# Altium footprint library SOD-323P.PcbLib: 1 footprints
Each footprint in its own frame and in the unit in brackets; x right, y up, seen from the top. Pads: shape width x height; smd on the part's side, far side on the other; paste and mask are expansions set on the pad; w line width, h text height; cw(c..) or ccw(c..) is an arc to the next point about the centre after c.
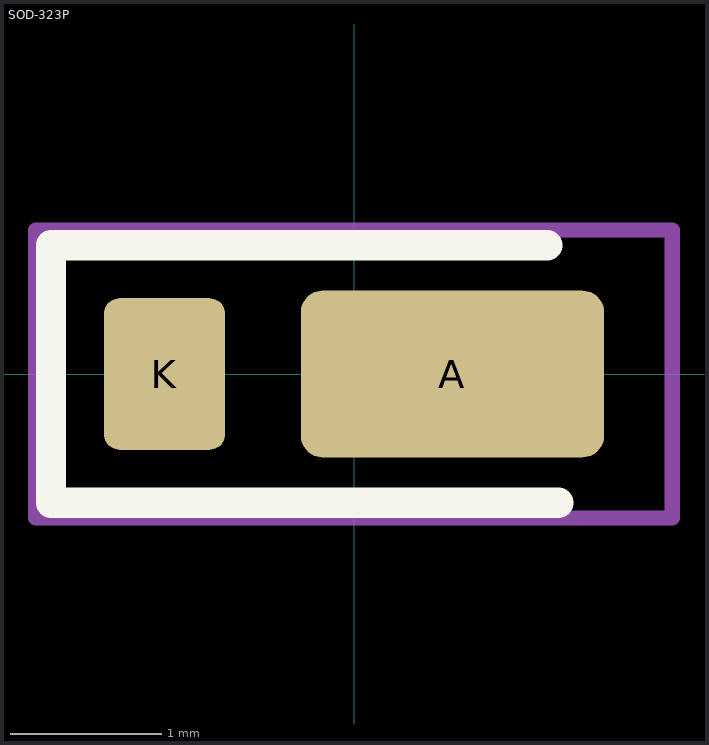
[diagram p0: the footprint, top view; thin cyan lines are the x and y axes]

## SOD-323P [mm]
pads (2):
  rrect25% 2x1.1 smd: A(0.65,0)
  rrect25% 0.8x1 smd: K(-1.25,0)
Top Overlay:
  lines w0.2: 1.275,0.85 -2,0.85 -2,-0.85 1.35,-0.85
Courtyard:
  lines w0.1: -2.1,-0.95 2.1,-0.95 2.1,0.95 -2.1,0.95 -2.1,-0.95
3D body "p39_SOD-323P.stp": height 0.6, standoff 0, extent -1.42,-0.625 1.08,0.625